# EAGLE library part HX1198NL (library OPL-Eagle-Library)
10/100BASE-T Single Port Surface Mount Magnetics With Various Turns Ratios
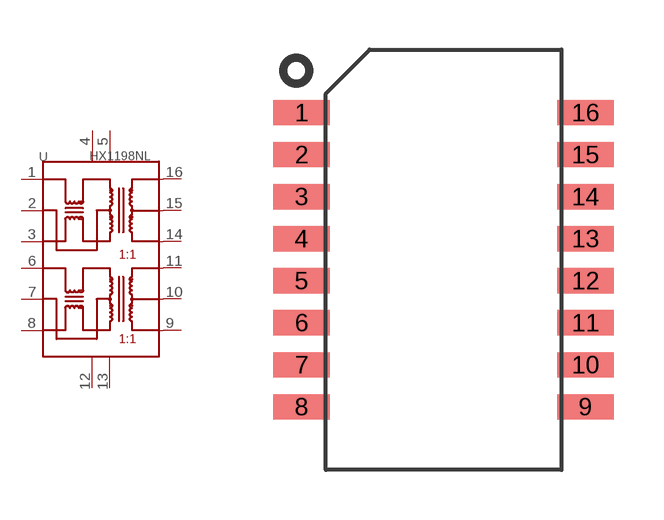
[diagram p12: symbol with the pads of SOIC16; footprint SOIC16]

Designator prefix U

## HX1198NL-0290010P1  [SOIC16]
1  1
2  2
3  3
4  4
5  5
6  6
7  7
8  8
9  9
10  10
11  11
12  12
13  13
14  14
15  15
16  16

## Footprint SOIC16 (pad centres in mm)
smd 1.714 x 0.762: 1 -4.286,4.445; 2 -4.286,3.175; 3 -4.286,1.905; 4 -4.286,0.635; 5 -4.286,-0.635; 6 -4.286,-1.905; 7 -4.286,-3.175; 8 -4.286,-4.445; 9 4.286,-4.445; 10 4.286,-3.175; 11 4.286,-1.905; 12 4.286,-0.635; 13 4.286,0.635; 14 4.286,1.905; 15 4.286,3.175; 16 4.286,4.445